# Altium schematic symbol library RaspComputeModule_4_IO_1.SCHLIB: 32 symbols
Pins are listed as number, name and electrical type; pins without a type are passive.

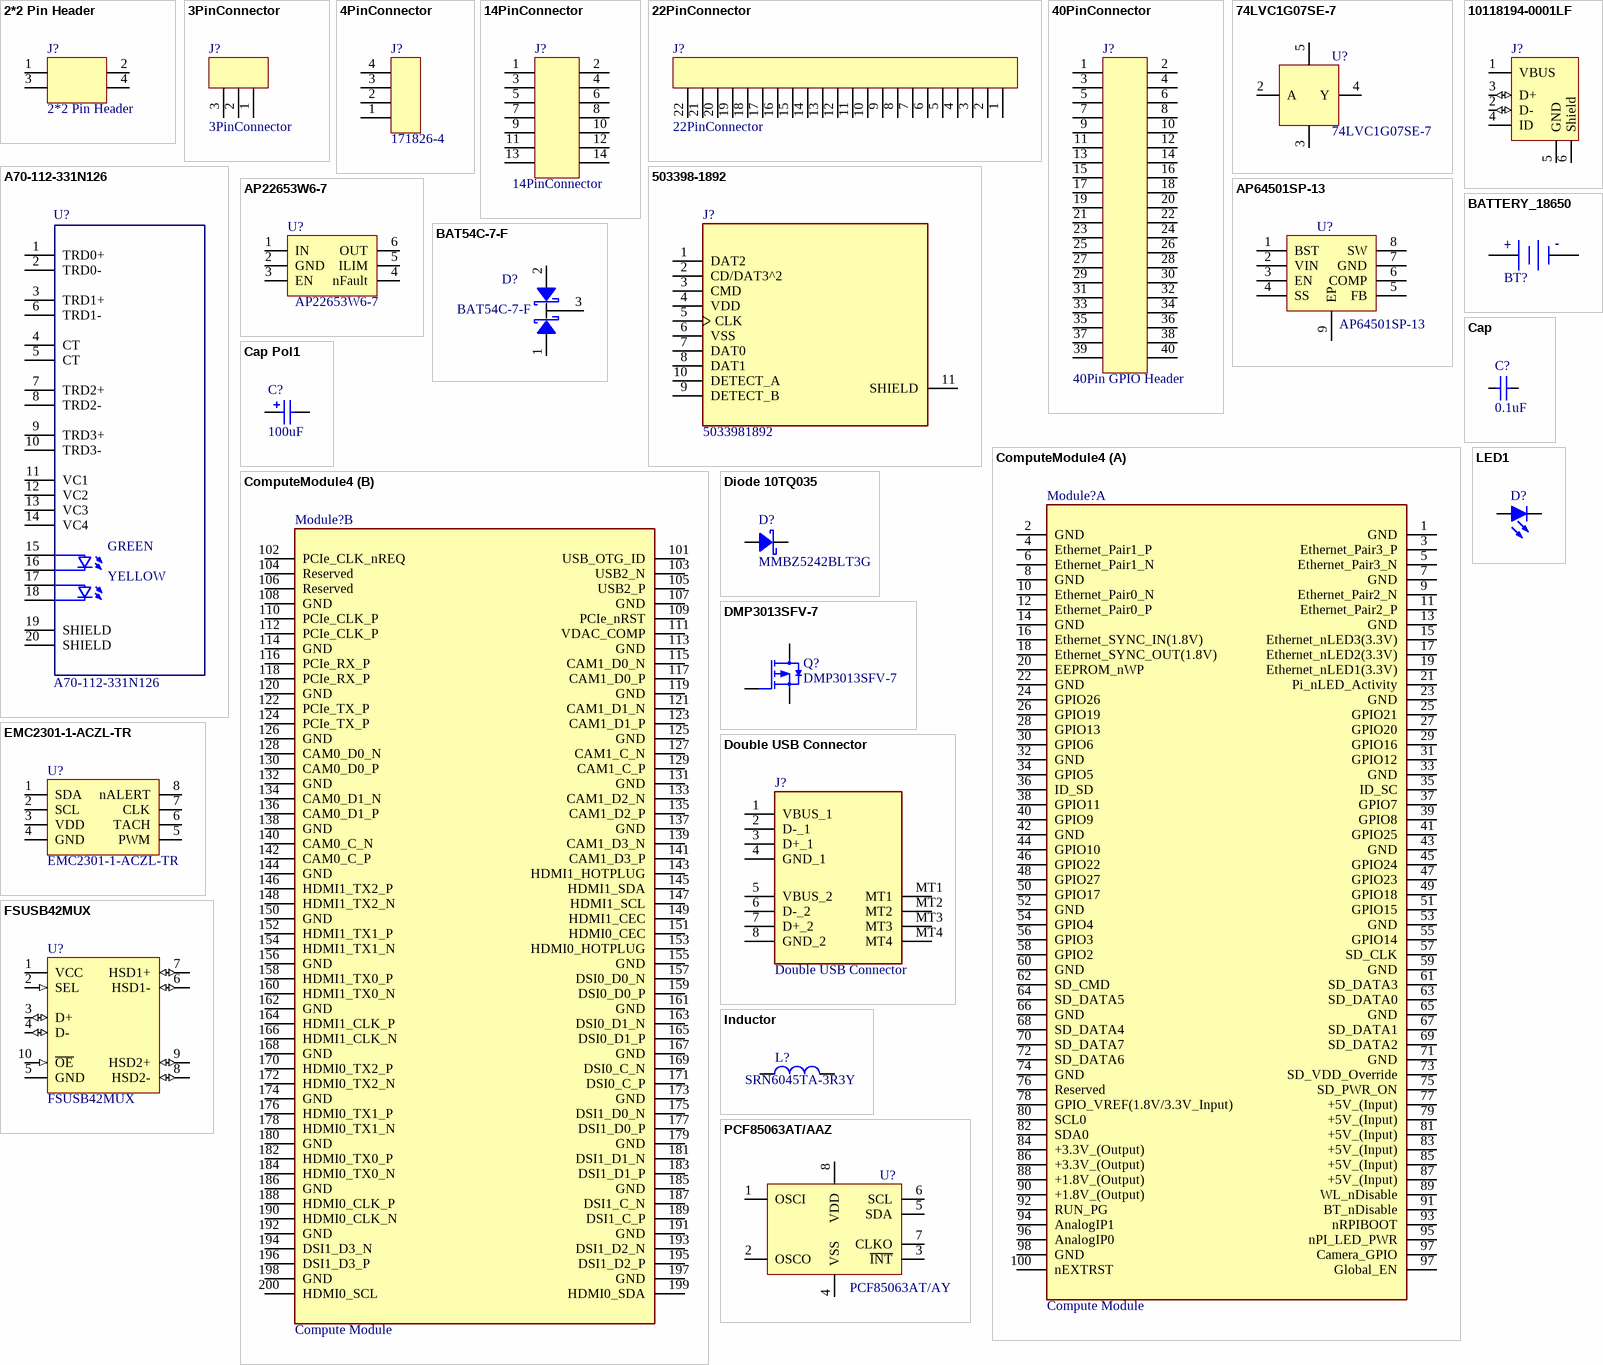
[diagram p0: symbols 2*2 Pin Header to PCF85063AT/AAZ]

## 2*2 Pin Header
designator J?
footprint PinHeader_2x02_P2.54mm_Vertical
pins: 1, 2, 3, 4

## 3PinConnector
designator J?
footprint PinHeader_1x03_P2.54mm_Vertical
pins: 1, 2, 3

## 4PinConnector
designator J?, comment 171826-4
CONN HEADER R/A 4POS 2.5MM; Manufacturer: TE Connectivity AMP Connectors; Manufacturer Part Number: 171826-4; Supplier: Digi-Key; Supplier Part Number: A112643-ND; Value: 171826-4
footprint TE_171826-4
pins: 1, 2, 3, 4

## 14PinConnector
designator J?
40PinConnector
footprint PinHeader_2x07_P2.54mm_Vertical
pins: 1, 2, 3, 4, 5, 6, 7, 8, 9, 10, 11, 12, 13, 14

## 22PinConnector
designator J?
Manufacturer: *; Manufacturer Part Number: *; Supplier: *; Supplier Part Number: *; Value: *
footprint Hirose_FH12-22S-0.5SH_1x22-1MP_P0.50mm_Horizontal
pins: 1, 2, 3, 4, 5, 6, 7, 8, 9, 10, 11, 12, 13, 14, 15, 16, 17, 18, 19, 20, 21, 22

## 40PinConnector
designator J?, comment 40Pin GPIO Header
40PinConnector
footprint PinHeader_2x20_P2.54mm_Vertical
pins: 1, 2, 3, 4, 5, 6, 7, 8, 9, 10, 11, 12, 13, 14, 15, 16, 17, 18, 19, 20, 21, 22, 23, 24, 25, 26, 27, 28, 29, 30, 31, 32, 33, 34, 35, 36, 37, 38, 39, 40

## 74LVC1G07SE-7
designator U?
IC BUF NON-INVERT 5.5V SOT353; Manufacturer: Nexperia; Manufacturer Part Number: 74LVC1G07SE-7; Supplier: Diodes Incorporated; Supplier Part Number: 74LVC1G07SE-7DICT-ND; Value: 74LVC1G07SE-7
footprint SOT-353_SC-70-5
pins: 2 A, 3 GND, 4 Y, 5 VCC

## 503398-1892
designator J?, comment 5033981892
9 _8 + 1_ Position Card Connector microSDâ„¢ Surface Mount, Right Angle Gold; Manufacturer: Molex; Manufacturer Part Number: 5033981892; Supplier Part Number: WM11190CT-ND; Value: 5033981892
footprint SDCARD_MOLEX_503398-1892
pins: 1 DAT2, 2 CD/DAT3^2, 3 CMD, 4 VDD (power), 5 CLK, 6 VSS (power), 7 DAT0, 8 DAT1, 9 DETECT_B (power), 10 DETECT_A, 11 SHIELD

## 10118194-0001LF
designator J?  (value not drawn)
CONN RCPT USB2.0 MICRO B SMD R/A; Manufacturer: Amphenol FCI; Supplier Part Number: 609-4618-1-ND; Manufacturer Part Number: 10118194-0001LF; Value: 10118194-0001LF; Supplier: Digi-Key
footprint USB_Micro-B_EDAC_UCON00686
pins: 1 VBUS (power), 2 D- (io), 3 D+ (io), 4 ID, 5 GND (power), 6 Shield

## A70-112-331N126
designator U?
RJ45 MAGNETIC JACK WITH LED; Manufacturer: EDAC; Value: A70-112-331N126; Manufacturer Part Number: A70-112-331N126
footprint TRJG0926HENL
pins: 1 TRD0+, 2 TRD0-, 3 TRD1+, 4 CT, 5 CT, 6 TRD1-, 7 TRD2+, 8 TRD2-, 9 TRD3+, 10 TRD3-, 11 VC1, 12 VC2, 13 VC3, 14 VC4, 15 G_A, 16 G_K, 17 Y_A, 18 Y_K, 19 SHIELD, 20 SHIELD
text: GREEN; YELLOW

## AP22653W6-7
designator U?
LOAD SWITCH,SOT26,T&R,3K; Manufacturer: Diodes Incorporated; Manufacturer Part Number: AP22653W6-7; Supplier: Digi-Key; Supplier Part Number: 31-AP22653W6-7CT-ND; Value: AP22653W6-7
footprint SOT-23-6
pins: 1 IN, 2 GND, 3 EN, 4 nFault, 5 ILIM, 6 OUT

## AP64501SP-13
designator U?
DCDC CONV HV BUCK SO-8EP; Manufacturer: Diodes Incorporated; Manufacturer Part Number: AP64501SP-13; Supplier: Digi-Key; Supplier Part Number: 31-AP64501SP-13CT-ND; Value: AP64501SP-13
footprint SOIC-8-1EP_3.9x4.9mm_P1.27mm_EP2.95x4.9mm_Mask2.71x3.4mm_ThermalVias
pins: 1 BST, 2 VIN, 3 EN, 4 SS, 5 FB, 6 COMP, 7 GND, 8 SW, 9 EP

## BAT54C-7-F
designator D?
DIODE ARRAY SCHOTTKY 30V SOT323; Manufacturer: ON Semiconductor; Manufacturer Part Number: BAT54CWT1G; Value: BAT54C-7-F; Supplier Part Number: BAT54CWT1GOSCT-ND; Supplier: Digi-Key
footprint SOT-23
pins: 1, 2, 3

## BATTERY_18650
designator BT?, comment 0532610271  (value not drawn)
CONN HEADER SMD R/A 2POS 1.25MM; Manufacturer: Molex; Manufacturer Part Number: 0532610271; Supplier: Digi-Key; Supplier Part Number: WM7620CT-ND; Value: 0532610271
footprint BatteryHolder_Keystone_3034_1x20mm
pins: 1 +, 2 -

## Cap
designator C?, comment 0.1uF
Manufacturer: Yageo; Supplier: Digi-Key; Value: 0.1uF
footprint C_0402_1005Metric
simulation model CAP (Capacitor)
signal-integrity model Cap
pins: 1, 2

## Cap Pol1
designator C?, comment 100uF
Manufacturer: Nichicon; Supplier: Digi-Key; Value: 100uF
footprint CP_EIA-7343-31_Kemet-D
pins: 1, 2
1 alternate drawing of the same symbol

## ComputeModule4
designator Module?, comment Compute Module
ComputeModule4; Value: Compute Module
footprint Raspberry-Pi-4-Compute-Module
part A pins: 1 GND (power), 2 GND (power), 3 Ethernet_Pair3_P (power), 4 Ethernet_Pair1_P (power), 5 Ethernet_Pair3_N (power), 6 Ethernet_Pair1_N (power), 7 GND (power), 8 GND (power), 9 Ethernet_Pair2_N (power), 10 Ethernet_Pair0_N (power), 11 Ethernet_Pair2_P (power), 12 Ethernet_Pair0_P (power), 13 GND (power), 14 GND (power), 15 Ethernet_nLED3(3.3V) (power), 16 Ethernet_SYNC_IN(1.8V) (power), 17 Ethernet_nLED2(3.3V) (power), 18 Ethernet_SYNC_OUT(1.8V) (power), 19 Ethernet_nLED1(3.3V) (power), 20 EEPROM_nWP (power), 21 Pi_nLED_Activity (power), 22 GND (power), 23 GND (power), 24 GPIO26 (power), 25 GPIO21 (power), 26 GPIO19 (power), 27 GPIO20 (power), 28 GPIO13 (power), 29 GPIO16 (power), 30 GPIO6 (power), 31 GPIO12 (power), 32 GND (power), 33 GND (power), 34 GPIO5 (power), 35 ID_SC (power), 36 ID_SD (power), 37 GPIO7 (power), 38 GPIO11 (power), 39 GPIO8 (power), 40 GPIO9 (power), 41 GPIO25 (power), 42 GND (power), 43 GND (power), 44 GPIO10 (power), 45 GPIO24 (power), 46 GPIO22 (power), 47 GPIO23 (power), 48 GPIO27 (power), 49 GPIO18 (power), 50 GPIO17 (power), 51 GPIO15 (power), 52 GND (power), 53 GND (power), 54 GPIO4 (power), 55 GPIO14 (power), 56 GPIO3 (power), 57 SD_CLK (power), 58 GPIO2 (power), 59 GND (power), 60 GND (power), 61 SD_DATA3 (power), 62 SD_CMD (power), 63 SD_DATA0 (power), 64 SD_DATA5 (power), 65 GND (power), 66 GND (power), 67 SD_DATA1 (power), 68 SD_DATA4 (power), 69 SD_DATA2 (power), 70 SD_DATA7 (power), 71 GND (power), 72 SD_DATA6 (power), 73 SD_VDD_Override (power), 74 GND (power), 75 SD_PWR_ON (power), 76 Reserved (power), 77 +5V_(Input) (power), 78 GPIO_VREF(1.8V/3.3V_Input) (power), 79 +5V_(Input) (power), 80 SCL0 (power), 81 +5V_(Input) (power), 82 SDA0 (power), 83 +5V_(Input) (power), 84 +3.3V_(Output) (power), 85 +5V_(Input) (power), 86 +3.3V_(Output) (power), 87 +5V_(Input) (power), 88 +1.8V_(Output) (power), 89 WL_nDisable (power), 90 +1.8V_(Output) (power), 91 BT_nDisable (power), 92 RUN_PG (power), 93 nRPIBOOT (power), 94 AnalogIP1 (power), 95 nPI_LED_PWR (power), 96 AnalogIP0 (power), 97 Camera_GPIO (power), 97 Global_EN (power), 98 GND (power), 100 nEXTRST (power)
part B pins: 101 USB_OTG_ID (power), 102 PCIe_CLK_nREQ (power), 103 USB2_N (power), 104 Reserved (power), 105 USB2_P (power), 106 Reserved (power), 107 GND (power), 108 GND (power), 109 PCIe_nRST (power), 110 PCIe_CLK_P (power), 111 VDAC_COMP (power), 112 PCIe_CLK_P (power), 113 GND (power), 114 GND (power), 115 CAM1_D0_N (power), 116 PCIe_RX_P (power), 117 CAM1_D0_P (power), 118 PCIe_RX_P (power), 119 GND (power), 120 GND (power), 121 CAM1_D1_N (power), 122 PCIe_TX_P (power), 123 CAM1_D1_P (power), 124 PCIe_TX_P (power), 125 GND (power), 126 GND (power), 127 CAM1_C_N (power), 128 CAM0_D0_N (power), 129 CAM1_C_P (power), 130 CAM0_D0_P (power), 131 GND (power), 132 GND (power), 133 CAM1_D2_N (power), 134 CAM0_D1_N (power), 135 CAM1_D2_P (power), 136 CAM0_D1_P (power), 137 GND (power), 138 GND (power), 139 CAM1_D3_N (power), 140 CAM0_C_N (power), 141 CAM1_D3_P (power), 142 CAM0_C_P (power), 143 HDMI1_HOTPLUG (power), 144 GND (power), 145 HDMI1_SDA (power), 146 HDMI1_TX2_P (power), 147 HDMI1_SCL (power), 148 HDMI1_TX2_N (power), 149 HDMI1_CEC (power), 150 GND (power), 151 HDMI0_CEC (power), 152 HDMI1_TX1_P (power), 153 HDMI0_HOTPLUG (power), 154 HDMI1_TX1_N (power), 155 GND (power), 156 GND (power), 157 DSI0_D0_N (power), 158 HDMI1_TX0_P (power), 159 DSI0_D0_P (power), 160 HDMI1_TX0_N (power), 161 GND (power), 162 GND (power), 163 DSI0_D1_N (power), 164 HDMI1_CLK_P (power), 165 DSI0_D1_P (power), 166 HDMI1_CLK_N (power), 167 GND (power), 168 GND (power), 169 DSI0_C_N (power), 170 HDMI0_TX2_P (power), 171 DSI0_C_P (power), 172 HDMI0_TX2_N (power), 173 GND (power), 174 GND (power), 175 DSI1_D0_N (power), 176 HDMI0_TX1_P (power), 177 DSI1_D0_P (power), 178 HDMI0_TX1_N (power), 179 GND (power), 180 GND (power), 181 DSI1_D1_N (power), 182 HDMI0_TX0_P (power), 183 DSI1_D1_P (power), 184 HDMI0_TX0_N (power), 185 GND (power), 186 GND (power), 187 DSI1_C_N (power), 188 HDMI0_CLK_P (power), 189 DSI1_C_P (power), 190 HDMI0_CLK_N (power), 191 GND (power), 192 GND (power), 193 DSI1_D2_N (power), 194 DSI1_D3_N (power), 195 DSI1_D2_P (power), 196 DSI1_D3_P (power), 197 GND (power), 198 GND (power), 199 HDMI0_SDA (power), 200 HDMI0_SCL (power)

## Diode 10TQ035
designator D?, comment MMBZ5242BLT3G
DIODE ZENER 12V 225MW SOT23-3; Manufacturer: ON Semiconductor; Value: MMBZ5242BLT3G; Manufacturer Part Number: MMBZ5242BLT3G; Supplier: Digi-Key; Supplier Part Number: MMBZ5242BLT3GOSCT-ND
footprint D_SOT-23_ANK
pins: 1 K, 2 A

## DMP3013SFV-7
designator Q?
Manufacturer: Diodes Incorporated; Value: DMP3013SFV-7; Manufacturer Part Number: DMP3013SFV-7; Supplier: Digi-Key; Supplier Part Number: DMP3013SFV-7DICT-ND
footprint Diodes_PowerDI3333-8
pins: 1 S, 2 S, 3 S, 4 G, 5 D

## Double USB Connector
designator J?
CONN RCPT USB2.0 A STACKED PCB; Value: Double USB Connector
footprint MOLEX_USB_67298-4090
pins: 1 VBUS_1, 2 D-_1, 3 D+_1, 4 GND_1, 5 VBUS_2, 6 D-_2, 7 D+_2, 8 GND_2, MT1, MT2, MT3, MT4

## EMC2301-1-ACZL-TR
designator U?
IC MOTOR DRIVER 3V-3.6V 8MSOP; Manufacturer: Microchip Technology; Manufacturer Part Number: EMC2301-1-ACZL-TR; Supplier: Digi-Key; Supplier Part Number: EMC2301-1-ACZL-CT-ND; Value: EMC2301-1-ACZL-TR
footprint MSOP-8_3x3mm_P0.65mm
pins: 1 SDA, 2 SCL, 3 VDD, 4 GND, 5 PWM, 6 TACH, 7 CLK, 8 nALERT

## FSUSB42MUX
designator U?
USB Switch IC 1 Channel 10-MSOP; Manufacturer: ON Semiconductor; Supplier Part Number: FSUSB42MUXCT-ND; Value: FSUSB42MUX; Supplier: Digi-Key; Manufacturer Part Number: FSUSB42MUX
footprint MSOP-10_3x3mm_P0.5mm
pins: 1 VCC (power), 2 SEL (in), 3 D+ (io), 4 D- (io), 5 GND (power), 6 HSD1- (io), 7 HSD1+ (io), 8 HSD2- (io), 9 HSD2+ (io), 10 ~{OE} (in)

## Inductor
designator L?, comment SRN6045TA-3R3Y
Value: SRN6045TA-3R3Y; Supplier: Digi-Key
footprint L_Bourns_SRN6045TA
footprint INDC1608L (Chip Inductor, Body 1.6x0.8mm, IPC High Density)
footprint 2029 (Chip Inductor, Body 2.0x1.2mm, IPC High Density)
footprint 0603 (Chip Inductor, Body 0.6x0.3mm, IPC High Density)
footprint INDC3216 (Chip Inductor, Body 3.2x1.6mm, IPC High Density)
footprint INDC4532 (Chip Inductor, Body 4.5x3.2mm, IPC High Density)
pins: 1, 2

## LED1
designator D?, comment SML-D12U1WT86  (value not drawn)
Typical RED GaAs LED; Manufacturer: Rohm Semiconductor; Supplier: Digi-Key; Supplier Part Number: SML-D12U1WT86CT-ND; Manufacturer Part Number: SML-D12U1WT86; Value: SML-D12U1WT86
footprint LED_0603_1608Metric
footprint LED_0603_1608Metric
pins: 1 K, 2 A

## PCF85063AT/AAZ
designator U?, comment PCF85063AT/AY
IC RTC CLK/CALENDAR I2C 8SOIC; Manufacturer: NXP USA Inc.; Manufacturer Part Number: PCF85063AT/AY; Supplier: Digi-Key; Supplier Part Number: 568-12403-1-ND; Value: PCF85063AT/AY
footprint SOIC-8_3.9x4.9mm_P1.27mm
pins: 1 OSCI, 2 OSCO, 3 ~{INT}, 4 VSS, 5 SDA, 6 SCL, 7 CLKO, 8 VDD

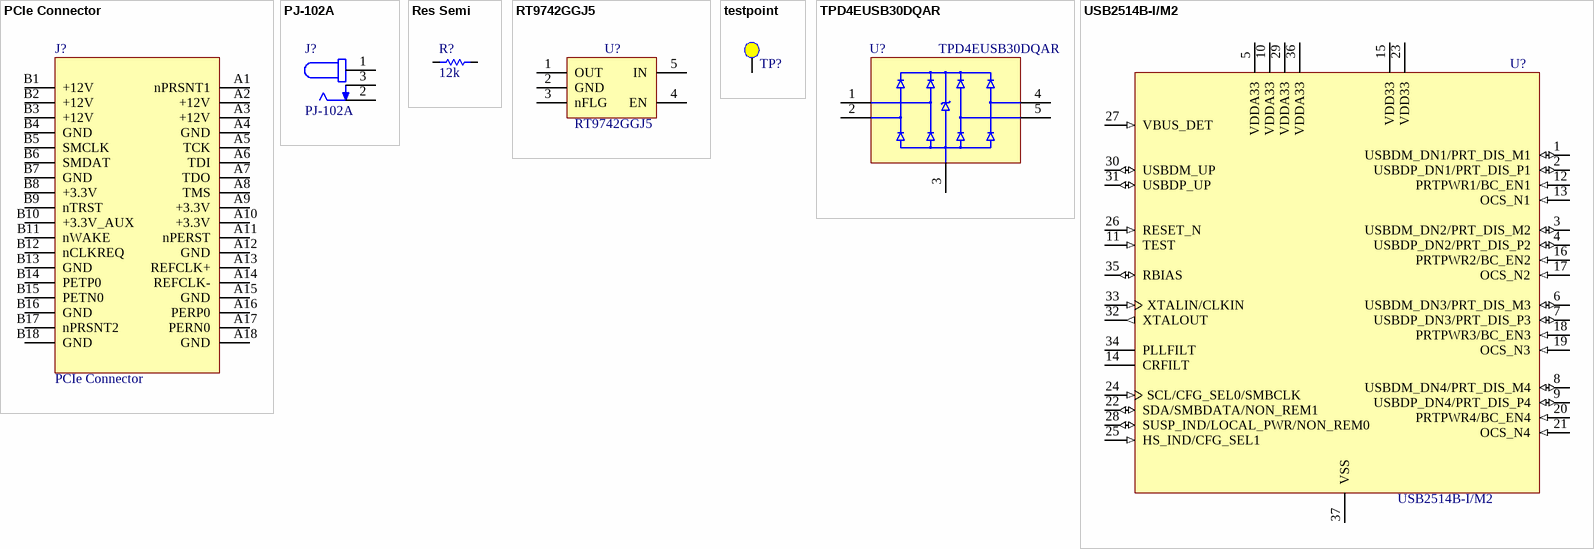
[diagram p1: symbols PCIe Connector to USB2514B-I/M2]

## PCIe Connector
designator J?
footprint PCIex1-36
pins: A1 nPRSNT1, A2 +12V, A3 +12V, A4 GND, A5 TCK, A6 TDI, A7 TDO, A8 TMS, A9 +3.3V, A10 +3.3V, A11 nPERST, A12 GND, A13 REFCLK+, A14 REFCLK-, A15 GND, A16 PERP0, A17 PERN0, A18 GND, B1 +12V, B2 +12V, B3 +12V, B4 GND, B5 SMCLK, B6 SMDAT, B7 GND, B8 +3.3V, B9 nTRST, B10 +3.3V_AUX, B11 nWAKE, B12 nCLKREQ, B13 GND, B14 PETP0, B15 PETN0, B16 GND, B17 nPRSNT2, B18 GND

## PJ-102A
designator J?
CONN PWR JACK 2X5.5MM SOLDER; Manufacturer: CUI Devices; Manufacturer Part Number: PJ-102A; Value: PJ-102A; Supplier: Digi-Key; Supplier Part Number: CP-102A-ND
footprint CUI_PJ-102A
pins: 1, 2, 3

## Res Semi
designator R?, comment 12k
Manufacturer: Yageo; Value: 12k; Supplier: Digi-Key
footprint R_0402_1005Metric
pins: 1, 2

## RT9742GGJ5
designator U?
IC PWR SWTCH N-CHAN 1:1 TSOT23-5; Manufacturer: Richtek USA Inc.; Manufacturer Part Number: RT9742GGJ5; Supplier: Digi-Key; Supplier Part Number: 1028-1436-1-ND; Value: RT9742GGJ5
footprint SOT-23-5
pins: 1 OUT, 2 GND, 3 nFLG, 4 EN, 5 IN

## testpoint
designator TP?  (value not drawn)
footprint TestPoint_Pad_2.0x2.0mm
pins: 1

## TPD4EUSB30DQAR
designator U?
TVS DIODE 5.5V 8V 10USON; MF: Texas Instruments; Supplier Part Number: 296-28063-1-ND; Supplier: Digi-Key; MP: TPD4EUSB30DQAR; Value: TPD4EUSB30DQAR
footprint USON-10_2.5x1.0mm_P0.5mm
pins: 1 D1+, 2 D1-, 3 GND_3 (power), 4 D2+, 5 D2-, 6 NC_6, 7 NC_7, 8 GND_8 (power), 9 NC_9, 10 NC_10

## USB2514B-I/M2
designator U?
USB Hub Controller USB Interface 36-SQFN _6x6_; Manufacturer: Microchip; Manufacturer Part Number: USB2514B-I/M2; Supplier Part Number: Digi-Key; Supplier: Digi-Key; Value: USB2514B-I/M2
footprint QFN-36-1EP_6x6mm_P0.5mm_EP3.7x3.7mm
pins: 1 USBDM_DN1/PRT_DIS_M1 (io), 2 USBDP_DN1/PRT_DIS_P1 (io), 3 USBDM_DN2/PRT_DIS_M2 (io), 4 USBDP_DN2/PRT_DIS_P2 (io), 5 VDDA33 (power), 6 USBDM_DN3/PRT_DIS_M3 (io), 7 USBDP_DN3/PRT_DIS_P3 (io), 8 USBDM_DN4/PRT_DIS_M4 (io), 9 USBDP_DN4/PRT_DIS_P4 (io), 10 VDDA33 (power), 11 TEST (in), 12 PRTPWR1/BC_EN1 (in), 13 OCS_N1 (in), 14 CRFILT, 15 VDD33 (power), 16 PRTPWR2/BC_EN2 (in), 17 OCS_N2 (in), 18 PRTPWR3/BC_EN3 (in), 19 OCS_N3 (in), 20 PRTPWR4/BC_EN4 (in), 21 OCS_N4 (in), 22 SDA/SMBDATA/NON_REM1 (io), 23 VDD33 (power), 24 SCL/CFG_SEL0/SMBCLK (in), 25 HS_IND/CFG_SEL1 (in), 26 RESET_N (in), 27 VBUS_DET (in), 28 SUSP_IND/LOCAL_PWR/NON_REM0 (io), 29 VDDA33 (power), 30 USBDM_UP (io), 31 USBDP_UP (io), 32 XTALOUT (out), 33 XTALIN/CLKIN (in), 34 PLLFILT, 35 RBIAS (io), 36 VDDA33 (power), 37 VSS (power)